# EAGLE library part TXB0104 (library HyTechDevices)
Texas Instruments TXB0104 4-channel low voltage to high voltage Logic Level Shifter. Minimum input voltage level 1.8V. Maximum output voltage level 5.5V.
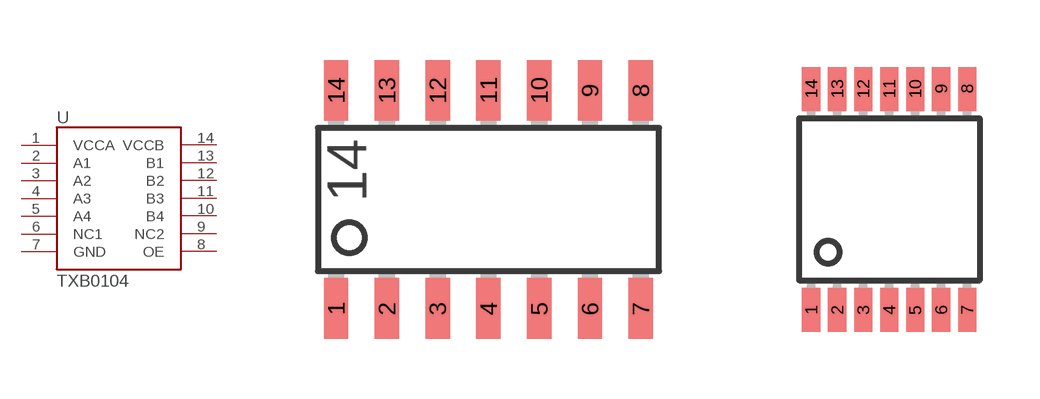
[diagram p54: symbol with the pads of SOIC-14; footprints SOIC-14, TSSOP-14]

Designator prefix -

## TXB0104  [SOIC-14]
1  VCCA
2  A1
3  A2
4  A3
5  A4
6  NC1
7  GND
8  OE
9  NC2
10  B4
11  B3
12  B2
13  B1
14  VCCB

## TXB0104TSSOP  [TSSOP-14]
Pads as for SOIC-14

## Footprint SOIC-14 (pad centres in mm)
Small Outline Integrated Circuit
smd 0.61 x 1.524: 1 -4.445,-2.794; 2 -3.175,-2.794; 3 -1.905,-2.794; 4 -0.635,-2.794; 5 0.635,-2.794; 6 1.905,-2.794; 7 3.175,-2.794; 8 3.175,2.667; 9 1.905,2.667; 10 0.635,2.667; 11 -0.635,2.667; 12 -1.905,2.667; 13 -3.175,2.667; 14 -4.445,2.667

## Footprint TSSOP-14 (pad centres in mm)
14-Lead Thin Shrink Small Outline Package TSSOP
smd 0.45 x 1.1: 1 -1.958,-2.618; 2 -1.308,-2.618; 3 -0.657,-2.618; 4 -0.007,-2.618; 5 0.642,-2.618; 6 1.292,-2.618; 7 1.942,-2.618; 8 1.942,2.918; 9 1.292,2.918; 10 0.642,2.918; 11 -0.007,2.918; 12 -0.657,2.918; 13 -1.308,2.918; 14 -1.958,2.918